# Altium schematic symbol library Inductors.SchLib: 4 symbols
Pins are listed as number, name and electrical type; pins without a type are passive.

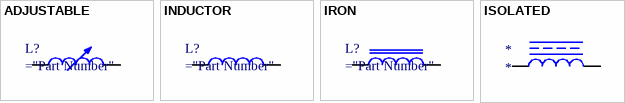
[diagram p0: symbols ADJUSTABLE to ISOLATED]

## ADJUSTABLE
designator L?
pins: 1, 2

## INDUCTOR
designator L?
pins: 1, 2

## IRON
designator L?
pins: 1, 2

## ISOLATED
designator *
pins: 1, 2